# EAGLE library part MCP73844-840I_MS (library MCP73844-840I_MS)
Li-Ion Charge Controller 8.4V MSOP8 Source: Datasheet <http://ww1.microchip.com/downloads/en/DeviceDoc/21823D.pdf>
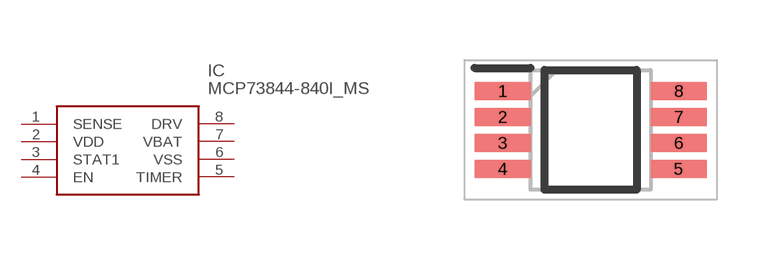
[diagram p0: symbol with the pads of SOP65P490X110-8N; footprint SOP65P490X110-8N]

Designator prefix IC

## MCP73844-840I_MS (Description: Li-Ion Charge Controller 8.4V MSOP8; Height: 1.1mm; Manufacturer_Name: Microchip; Manufacturer_Part_Number: MCP73844-840I/MS)  [SOP65P490X110-8N]
1  SENSE
2  VDD
3  STAT1
4  EN
5  TIMER
6  VSS
7  VBAT
8  DRV

## Footprint SOP65P490X110-8N (pad centres in mm)
MSOP
smd 1.4 x 0.45: 1 -2.2,0.975; 2 -2.2,0.325; 3 -2.2,-0.325; 4 -2.2,-0.975; 5 2.2,-0.975; 6 2.2,-0.325; 7 2.2,0.325; 8 2.2,0.975